# EAGLE library part ADG633YRU (library xess)
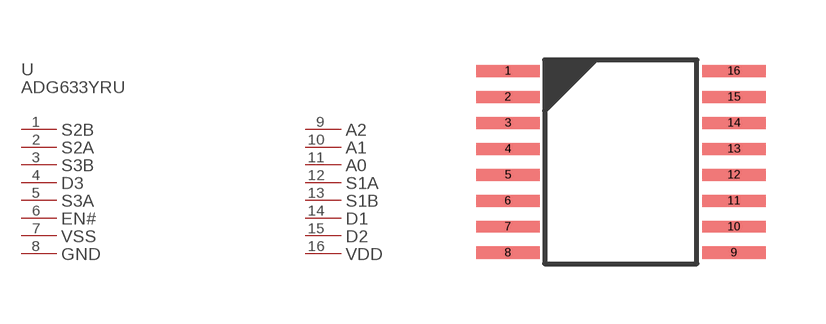
[diagram p111: symbol with the pads of ADG633YRU; footprint ADG633YRU]

Designator prefix U; gates PART_VALUE=PART_VALUE-ADG633YRU S2B=PL-ADG633YRU S2A=PL-ADG633YRU S3B=PL-ADG633YRU D3=PL-ADG633YRU S3A=PL-ADG633YRU EN#=PL-ADG633YRU VSS=PL-ADG633YRU GND=PL-ADG633YRU A2=PL-ADG633YRU A1=PL-ADG633YRU A0=PL-ADG633YRU S1A=PL-ADG633YRU S1B=PL-ADG633YRU D1=PL-ADG633YRU D2=PL-ADG633YRU VDD=PL-ADG633YRU

## ADG633YRU  [ADG633YRU]
1  S2B:P$1
2  S2A:P$1
3  S3B:P$1
4  D3:P$1
5  S3A:P$1
6  EN#:P$1
7  VSS:P$1
8  GND:P$1
9  A2:P$1
10  A1:P$1
11  A0:P$1
12  S1A:P$1
13  S1B:P$1
14  D1:P$1
15  D2:P$1
16  VDD:P$1

## Footprint ADG633YRU (pad centres in mm)
smd 1.59 x 0.3: 1 0,0; 2 0,-0.65; 3 0,-1.3; 4 0,-1.95; 5 0,-2.6; 6 0,-3.25; 7 0,-3.9; 8 0,-4.55; 9 5.65,-4.55; 10 5.65,-3.9; 11 5.65,-3.25; 12 5.65,-2.6; 13 5.65,-1.95; 14 5.65,-1.3; 15 5.65,-0.65; 16 5.65,0